# EAGLE library part ICL7600 (library Quynn)
Charge Pump Switching Regulator
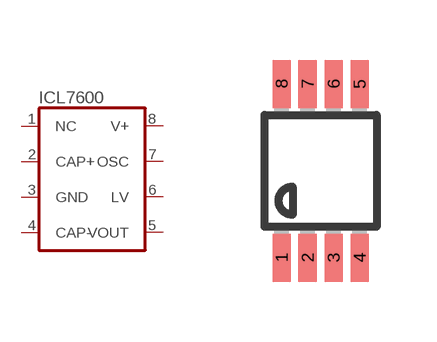
[diagram p4: symbol with the pads of UMAX8; footprint UMAX8]

Designator prefix -

## ICL7600  [UMAX8]
1  NC  in
2  CAP+  in
3  GND  in
4  CAP-  in
5  VOUT  in
6  LV  pas
7  OSC  out
8  V+  in

## Footprint UMAX8 (pad centres in mm)
micro MAX Package
smd 0.45 x 1.2: 1 -0.975,-2.175; 2 -0.325,-2.175; 3 0.325,-2.175; 4 0.975,-2.175; 5 0.975,2.175; 6 0.325,2.175; 7 -0.325,2.175; 8 -0.975,2.175